# Altium footprint library Connector.PcbLib: 240 footprints (part 3 of 15)
Each footprint in its own frame and in the unit in brackets; x right, y up, seen from the top. Pads: shape width x height; smd on the part's side, far side on the other; paste and mask are expansions set on the pad; w line width, h text height; cw(c..) or ccw(c..) is an arc to the next point about the centre after c.
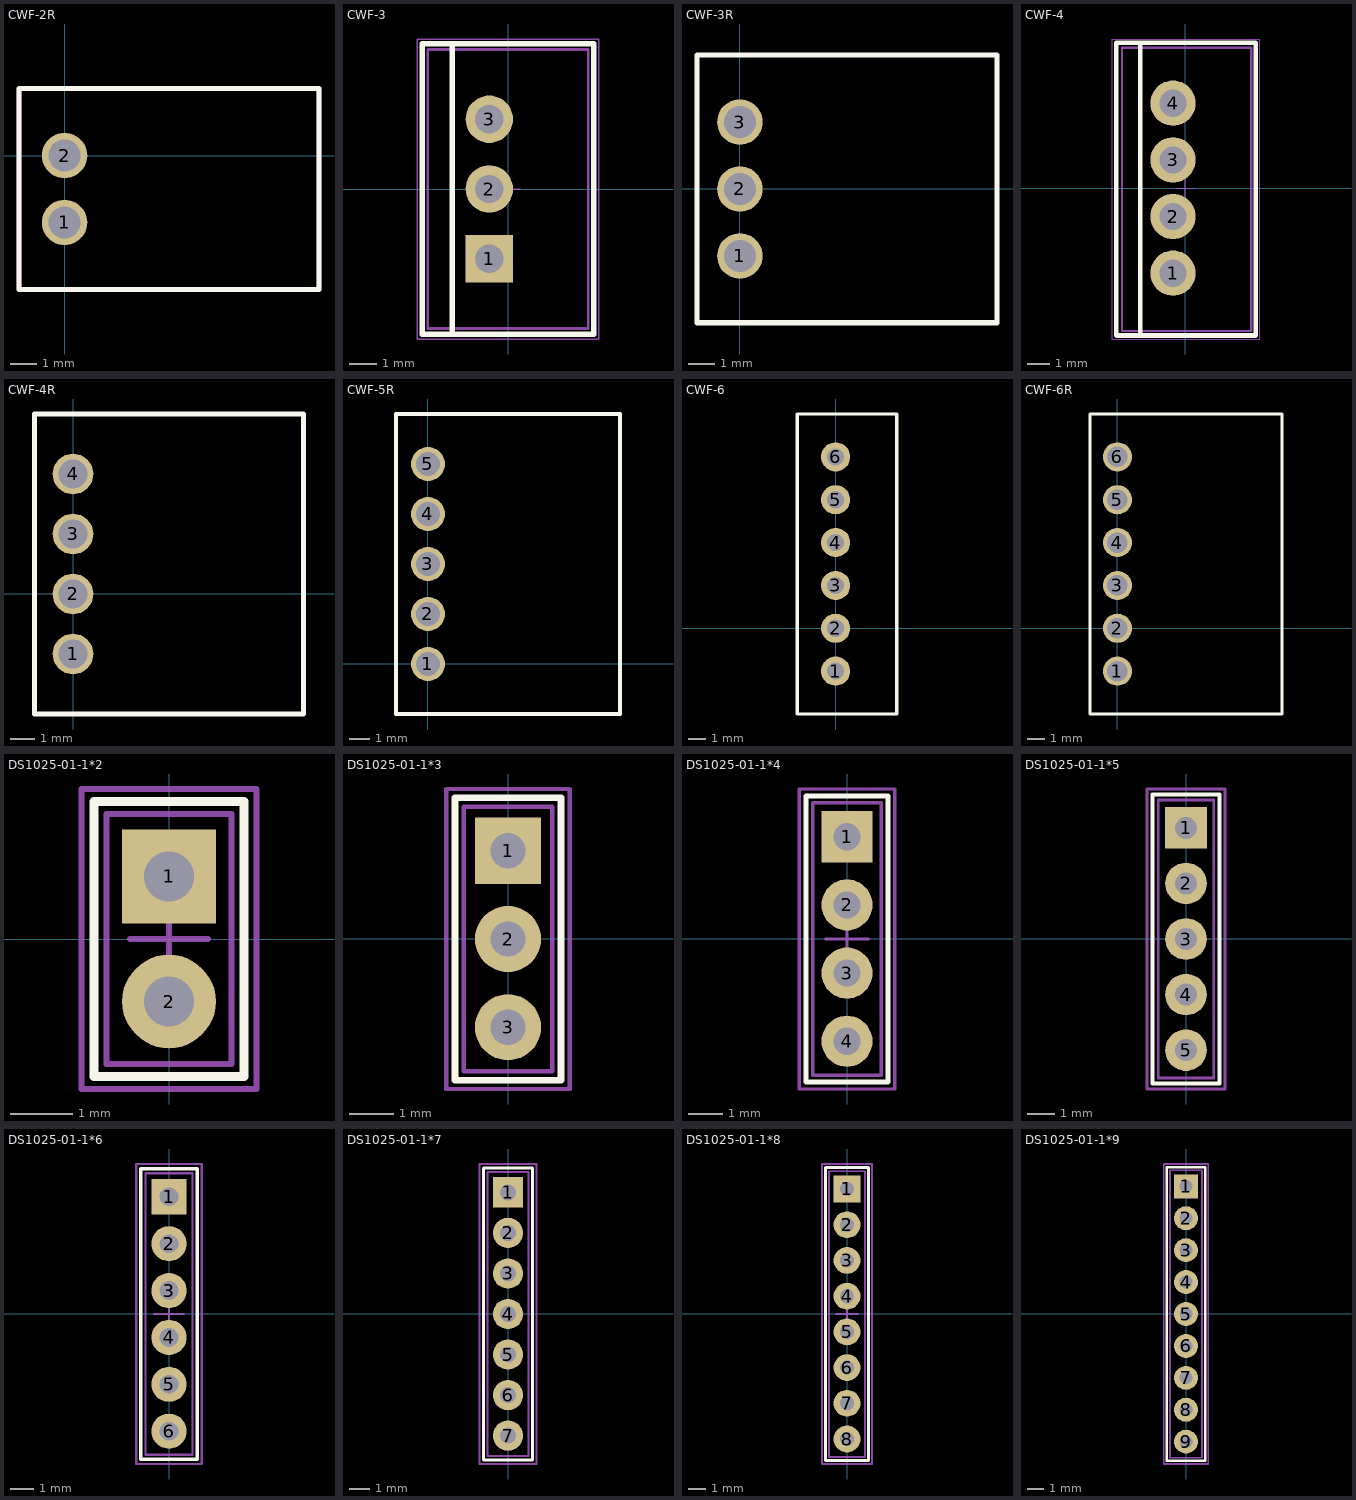
[diagram p2: the footprints below, top view; thin cyan lines are the x and y axes]

## CWF-2R [mm]
pads (2):
  round 1.7 hole 1.2: 1(0,-2.5) 2(0,0)
Top Overlay:
  lines w0.2: -1.7,-5 -1.7,2.5 9.5,2.5 9.5,-5 -1.7,-5
Mechanical 7:
  lines w0.2: -1.7,-5 9.5,-5 9.5,2.5 -1.7,2.5 -1.7,-5
Mechanical 10:
  text ".Comment" at 0.025,4.6 h1
  text ".Designator" at 0.025,3.65 h1
3D body "CWF_2_H.STEP": height 5.7, standoff -1.5, extent -1.55,-4.975 9.35,2.525

## CWF-3 [mm] "9.9mm L x 5.75mm W, pitch 2.5mm"
height 7
pads (3):
  rect 1.7x1.7 hole 1.02: 1(-0.67,-2.5)
  round 1.7 hole 1.02: 2(-0.67,0) 3(-0.67,2.5)
Top Overlay:
  lines w0.2: -2,-5.2 -2,5.2 ; -3.075,-5.2 3.075,-5.2 3.075,5.2 -3.075,5.2 -3.075,-5.2
Mechanical 13:
  lines w0.1: -2.875,-5 2.875,-5 2.875,5 -2.875,5 -2.875,-5
Mechanical 15:
  lines w0.05: -0.437,0 0.437,0 ; 0,-0.437 0,0.437 ; -3.25,-5.375 -3.25,5.375 3.25,5.375 3.25,-5.375 -3.25,-5.375
3D body "User Library-CWF-3.step": height 7.05, standoff -3.45, extent -2.875,-5 2.875,5

## CWF-3R [mm]
pads (3):
  round 1.7 hole 1.2: 1(0,-2.5) 2(0,0) 3(0,2.5)
Top Overlay:
  lines w0.2: -1.6,-5 9.6,-5 9.6,5 -1.6,5 -1.6,-5
3D body "CWF_3_H.STEP": height 5.7, standoff -1.5, extent -1.5,-5 9.4,5

## CWF-4 [mm]
pads (4):
  round 2 hole 1.2: 1(-0.55,-3.75) 2(-0.55,-1.25) 3(-0.55,1.25) 4(-0.55,3.75)
Top Overlay:
  lines w0.2: -2,-6.5 -2,6.4 ; -3.045,-6.5 -3.045,6.415 3.1,6.415 3.1,-6.5 -3.045,-6.5
Mechanical 9:
  text ".Designator" at -5.3,9.1 h3.5
Mechanical 10:
  text ".Comment" at -3.3,7.1 h2
Mechanical 11:
  lines w0.1: -2.8,-6.3 2.9,-6.3 2.9,6.2 -2.8,6.2 -2.8,-6.3
Mechanical 15:
  lines w0.05: -0.4,0 0.4,0 ; 0,-0.5 0,0.5 ; -3.224,-6.654 -3.224,6.583 3.271,6.583 3.271,-6.654 -3.224,-6.654
3D body "CWF_4_V.STEP": height 7.7, standoff -1, extent -2.8,-6.3 2.9,6.2

## CWF-4R [mm]
pads (4):
  round 1.7 hole 1.2: 1(0,-2.5) 2(0,0) 3(0,2.5) 4(0,5)
Top Overlay:
  lines w0.2: -1.6,-5 9.6,-5 9.6,7.5 -1.6,7.5 -1.6,-5
3D body "CWF_4_H.STEP": height 1, standoff -6.2, extent -1.5,-5 9.4,7.5

## CWF-5R [mm]
pads (5):
  round 1.7 hole 1.2: 1(0,0) 2(0,2.5) 3(0,5) 4(0,7.5) 5(0,10)
Top Overlay:
  lines w0.2: -1.6,-2.5 9.6,-2.5 9.6,12.5 -1.6,12.5 -1.6,-2.5
3D body "CWF_5_H.STEP": height 5.7, standoff -1.5, extent -1.45,-2.5 9.45,12.5

## CWF-6 [mm]
pads (6):
  round 1.7 hole 1: 1(0,-2.5) 2(0,0) 3(0,2.5) 4(0,5) 5(0,7.5) 6(0,10)
Top Overlay:
  lines w0.2: -2.25,-5 3.575,-5 3.575,12.5 -2.25,12.5 -2.25,-5
3D body "User Library-CWF-6.step": height 7, standoff -3.5, extent -2.2,-4.975 3.55,12.525

## CWF-6R [mm]
pads (6):
  round 1.7 hole 1.2: 1(0,-2.5) 2(0,0) 3(0,2.5) 4(0,5) 5(0,7.5) 6(0,10)
Top Overlay:
  lines w0.2: -1.6,-5 -1.6,12.5 9.6,12.5 9.6,-5 -1.6,-5
3D body "CWF_6_H.STEP": height 5.7, standoff -1.5, extent -1.45,-5 9.45,12.5

## DS1025-01-1*2 [mm]
height 0.05
pads (2):
  rect 1.5x1.5 hole 0.8: 1(0,1)
  round 1.5 hole 0.8: 2(0,-1)
Top Overlay:
  lines w0.15: -1.2,-2.2 -1.2,2.2 1.2,2.2 1.2,-2.2 -1.2,-2.2
Mechanical 9:
  text ".Designator" at -5,3.1 h3.5
Mechanical 10:
  text ".Comment" at -3,-3.7 h2
Mechanical 11:
  lines w0.1: -1,-2 -1,2 1,2 1,-2 -1,-2
Mechanical 15:
  lines w0.1: -0.625,0 0.625,0 ; 0,-0.6 0,0.6 ; -1.4,-2.4 -1.4,2.4 1.4,2.4 1.4,-2.4 -1.4,-2.4
3D body "User Library-pls2-1.step": height 6, standoff -2.8, extent -1,-2 1,0
3D body "User Library-pls2-1.step": height 6, standoff -2.8, extent -1,0 1,2

## DS1025-01-1*3 [mm]
height 0.05
pads (3):
  rect 1.5x1.5 hole 0.8: 1(0,2)
  round 1.5 hole 0.8: 2(0,0) 3(0,-2)
Top Overlay:
  lines w0.15: -1.2,-3.2 1.2,-3.2 1.2,3.2 -1.2,3.2 -1.2,-3.2
Mechanical 9:
  text ".Designator" at -5,4.1 h3.5
Mechanical 10:
  text ".Comment" at -3.4,-4.5 h2
Mechanical 11:
  lines w0.1: -1,-3 1,-3 1,3 -1,3 -1,-3
Mechanical 15:
  lines w0.1: -0.625,0 0.625,0 ; 0,-0.6 0,0.6 ; -1.4,-3.4 1.4,-3.4 1.4,3.4 -1.4,3.4 -1.4,-3.4
3D body "User Library-pls2-1.step": height 6, standoff -2.8, extent -1,1 1,3
3D body "User Library-pls2-1.step": height 6, standoff -2.8, extent -1,-1 1,1
3D body "User Library-pls2-1.step": height 6, standoff -2.8, extent -1,-3 1,-1

## DS1025-01-1*4 [mm]
height 0.05
pads (4):
  rect 1.5x1.5 hole 0.8: 1(0,3)
  round 1.5 hole 0.8: 2(0,1) 3(0,-1) 4(0,-3)
Top Overlay:
  lines w0.15: -1.2,-4.2 1.2,-4.2 1.2,4.2 -1.2,4.2 -1.2,-4.2
Mechanical 9:
  text ".Designator" at -5,5.1 h3.5
Mechanical 10:
  text ".Comment" at -3.2,-5.8 h2
Mechanical 11:
  lines w0.1: -1,-4 1,-4 1,4 -1,4 -1,-4
Mechanical 15:
  lines w0.1: -0.625,0 0.625,0 ; 0,-0.6 0,0.6 ; -1.4,-4.4 1.4,-4.4 1.4,4.4 -1.4,4.4 -1.4,-4.4
3D body "User Library-pls2-1.step": height 6, standoff -2.8, extent -1,-4 1,-2
3D body "User Library-pls2-1.step": height 6, standoff -2.8, extent -1,2 1,4
3D body "User Library-pls2-1.step": height 6, standoff -2.8, extent -1,0 1,2
3D body "User Library-pls2-1.step": height 6, standoff -2.8, extent -1,-2 1,0

## DS1025-01-1*5 [mm]
height 0.05
pads (5):
  rect 1.5x1.5 hole 0.8: 1(0,4)
  round 1.5 hole 0.8: 2(0,2) 3(0,0) 4(0,-2) 5(0,-4)
Top Overlay:
  lines w0.15: -1.2,-5.2 1.2,-5.2 1.2,5.2 -1.2,5.2 -1.2,-5.2
Mechanical 9:
  text ".Designator" at -5,6.1 h3.5
Mechanical 10:
  text ".Comment" at -3,-7 h2
Mechanical 11:
  lines w0.1: -1,-5 1,-5 1,5 -1,5 -1,-5
Mechanical 15:
  lines w0.1: -0.625,0 0.625,0 ; 0,-0.6 0,0.6 ; -1.4,-5.4 1.4,-5.4 1.4,5.4 -1.4,5.4 -1.4,-5.4
3D body "User Library-pls2-1.step": height 6, standoff -2.8, extent -1,-5 1,-3
3D body "User Library-pls2-1.step": height 6, standoff -2.8, extent -1,-1 1,1
3D body "User Library-pls2-1.step": height 6, standoff -2.8, extent -1,1 1,3
3D body "User Library-pls2-1.step": height 6, standoff -2.8, extent -1,3 1,5
3D body "User Library-pls2-1.step": height 6, standoff -2.8, extent -1,-3 1,-1

## DS1025-01-1*6 [mm]
height 0.05
pads (6):
  rect 1.5x1.5 hole 0.8: 1(0,5)
  round 1.5 hole 0.8: 2(0,3) 3(0,1) 4(0,-1) 5(0,-3) 6(0,-5)
Top Overlay:
  lines w0.15: -1.2,-6.2 1.2,-6.2 1.2,6.2 -1.2,6.2 -1.2,-6.2
Mechanical 9:
  text ".Designator" at -5,7.2 h3.5
Mechanical 10:
  text ".Comment" at -3,-8 h2
Mechanical 11:
  lines w0.1: -1,-6 1,-6 1,6 -1,6 -1,-6
Mechanical 15:
  lines w0.1: -0.625,0 0.625,0 ; 0,-0.6 0,0.6 ; -1.4,-6.4 1.4,-6.4 1.4,6.4 -1.4,6.4 -1.4,-6.4
3D body "User Library-pls2-1.step": height 6, standoff -2.8, extent -1,-6 1,-4
3D body "User Library-pls2-1.step": height 6, standoff -2.8, extent -1,-2 1,0
3D body "User Library-pls2-1.step": height 6, standoff -2.8, extent -1,4 1,6
3D body "User Library-pls2-1.step": height 6, standoff -2.8, extent -1,2 1,4
3D body "User Library-pls2-1.step": height 6, standoff -2.8, extent -1,0 1,2
3D body "User Library-pls2-1.step": height 6, standoff -2.8, extent -1,-4 1,-2

## DS1025-01-1*7 [mm]
height 0.05
pads (7):
  rect 1.5x1.5 hole 0.8: 1(0,6)
  round 1.5 hole 0.8: 2(0,4) 3(0,2) 4(0,0) 5(0,-2) 6(0,-4) 7(0,-6)
Top Overlay:
  lines w0.15: -1.2,-7.2 -1.2,7.2 1.2,7.2 1.2,-7.2 -1.2,-7.2
Mechanical 9:
  text ".Designator" at -5,8.2 h3.5
Mechanical 10:
  text ".Comment" at -3.3,-8.5 h2
Mechanical 11:
  lines w0.1: -1,-7 -1,7 1,7 1,-7 -1,-7
Mechanical 15:
  lines w0.1: -0.625,0 0.625,0 ; 0,-0.6 0,0.6 ; -1.4,-7.4 -1.4,7.4 1.4,7.4 1.4,-7.4 -1.4,-7.4
3D body "User Library-pls2-1.step": height 6, standoff -2.8, extent -1,-5 1,-3
3D body "User Library-pls2-1.step": height 6, standoff -2.8, extent -1,-1 1,1
3D body "User Library-pls2-1.step": height 6, standoff -2.8, extent -1,5 1,7
3D body "User Library-pls2-1.step": height 6, standoff -2.8, extent -1,3 1,5
3D body "User Library-pls2-1.step": height 6, standoff -2.8, extent -1,1 1,3
3D body "User Library-pls2-1.step": height 6, standoff -2.8, extent -1,-3 1,-1
3D body "User Library-pls2-1.step": height 6, standoff -2.8, extent -1,-7 1,-5

## DS1025-01-1*8 [mm]
height 0.05
pads (8):
  rect 1.5x1.5 hole 0.8: 1(0,7)
  round 1.5 hole 0.8: 2(0,5) 3(0,3) 4(0,1) 5(0,-1) 6(0,-3) 7(0,-5) 8(0,-7)
Top Overlay:
  lines w0.15: -1.2,-8.2 1.2,-8.2 1.2,8.2 -1.2,8.2 -1.2,-8.2
Mechanical 9:
  text ".Designator" at -5,9.2 h3.5
Mechanical 10:
  text ".Comment" at -3.1,-9.9 h2
Mechanical 11:
  lines w0.1: -1,-8 1,-8 1,8 -1,8 -1,-8
Mechanical 15:
  lines w0.1: -0.625,0 0.625,0 ; 0,-0.6 0,0.6 ; -1.4,-8.4 1.4,-8.4 1.4,8.4 -1.4,8.4 -1.4,-8.4
3D body "User Library-pls2-1.step": height 6, standoff -2.8, extent -1,-8 1,-6
3D body "User Library-pls2-1.step": height 6, standoff -2.8, extent -1,-4 1,-2
3D body "User Library-pls2-1.step": height 6, standoff -2.8, extent -1,0 1,2
3D body "User Library-pls2-1.step": height 6, standoff -2.8, extent -1,6 1,8
3D body "User Library-pls2-1.step": height 6, standoff -2.8, extent -1,4 1,6
3D body "User Library-pls2-1.step": height 6, standoff -2.8, extent -1,2 1,4
3D body "User Library-pls2-1.step": height 6, standoff -2.8, extent -1,-2 1,0
3D body "User Library-pls2-1.step": height 6, standoff -2.8, extent -1,-6 1,-4

## DS1025-01-1*9 [mm]
height 0.05
pads (9):
  rect 1.5x1.5 hole 0.8: 1(0,8)
  round 1.5 hole 0.8: 2(0,6) 3(0,4) 4(0,2) 5(0,0) 6(0,-2) 7(0,-4) 8(0,-6) 9(0,-8)
Top Overlay:
  lines w0.15: -1.2,-9.2 1.2,-9.2 1.2,9.2 -1.2,9.2 -1.2,-9.2
Mechanical 9:
  text ".Designator" at -5,10.2 h3.5
Mechanical 10:
  text ".Comment" at -3.3,-11 h2
Mechanical 11:
  lines w0.1: -1,-9 1,-9 1,9 -1,9 -1,-9
Mechanical 15:
  lines w0.1: -0.625,0 0.625,0 ; 0,-0.6 0,0.6 ; -1.4,-9.4 1.4,-9.4 1.4,9.4 -1.4,9.4 -1.4,-9.4
3D body "User Library-pls2-1.step": height 6, standoff -2.8, extent -1,-9 1,-7
3D body "User Library-pls2-1.step": height 6, standoff -2.8, extent -1,-5 1,-3
3D body "User Library-pls2-1.step": height 6, standoff -2.8, extent -1,-1 1,1
3D body "User Library-pls2-1.step": height 6, standoff -2.8, extent -1,3 1,5
3D body "User Library-pls2-1.step": height 6, standoff -2.8, extent -1,5 1,7
3D body "User Library-pls2-1.step": height 6, standoff -2.8, extent -1,7 1,9
3D body "User Library-pls2-1.step": height 6, standoff -2.8, extent -1,1 1,3
3D body "User Library-pls2-1.step": height 6, standoff -2.8, extent -1,-3 1,-1
3D body "User Library-pls2-1.step": height 6, standoff -2.8, extent -1,-7 1,-5